# Altium integrated library MF-SWITCHES.IntLib: 3 symbols
Pins are listed as number, name and electrical type; pins without a type are passive.

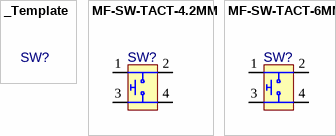
[diagram p0: symbols _Template to MF-SW-TACT-6MM]

## _Template
designator SW?  (value not drawn)
Operating Temperature Range: *; RoHS: *; Package: *; ComponentLink1Description: Datasheet; ComponentLink1URL: *; ComponentLink2Description: Supplier Link 1; ComponentLink2URL: *; Supplier 1: Macrofab; Supplier Part Number 1: *; Manufacturer 1: *; Manufacturer Part Number 1: *; Orientation: *; Current Rating: *; Type: *; Contact Form: *; Stem Height: *; Voltage Rating: *; Operating Force: *; Mount: *

## MF-SW-TACT-4.2MM
designator SW?  (value not drawn)
Tactile Switch 4.2MM; Manufacturer 1: C&K; Manufacturer Part Number 1: PTS810SJG250SMTRLFS; Current Rating: 50mA; Contact Form: SPST; Stem Height: 2.5mm; Voltage Rating: 16V; Operating Force: 2.6N; Operating Temperature Range: - 40 C to + 85 C; RoHS: Compliant; ComponentLink1Description: Datasheet; ComponentLink1URL: https://s3.amazonaws.com/devpublic1/datasheets/PTS810_4mar13-248115.pdf; ComponentLink2Description: Supplier Link 1; ComponentLink2URL: https://factory.macrofab.com/part/MF-SW-TACT-4.2MM; Supplier 1: Macrofab; Supplier Part Number 1: MF-SW-TACT-4.2MM; Orientation: Vertical; Type: Tactile Switch; Mount: SMD
footprint TACT_4.2MM (Tactile Switch 4.2MM)
pins: 1, 2, 3, 4

## MF-SW-TACT-6MM
designator SW?  (value not drawn)
Tactile Switch 6MM; Manufacturer 1: C&K; Manufacturer Part Number 1: PTS645SM43SMTR92LFS; Current Rating: 50mA; Contact Form: SPST; Stem Height: 4.3mm; Voltage Rating: 16V; Operating Force: 1.6N; Operating Temperature Range: - 40 C to + 85 C; RoHS: Compliant; ComponentLink1Description: Datasheet; ComponentLink1URL: https://s3.amazonaws.com/devpublic1/datasheets/PTS645_9sept14-24999.pdf; ComponentLink2Description: Supplier Link 1; ComponentLink2URL: https://factory.macrofab.com/part/MF-SW-TACT-6MM; Supplier 1: Macrofab; Supplier Part Number 1: MF-SW-TACT-6MM; Orientation: Vertical; Type: Tactile Switch; Mount: SMD
footprint TACT_6MM (Tactile Switch 6MM)
pins: 1, 2, 3, 4